# EAGLE library part CAT16-*4 (library HyTechDevices)
Bourns CAT16 series 4x 1% or 5% resistor array size 1206 Datasheet <https://www.bourns.com/docs/Product-Datasheets/CATCAY.pdf> Options: CAT16-F4: 1% tolerance CAT16-J4: 5% tolerance Alternatives: CTS Resistor Products 742C083 series - Datasheet <https://www.ctscorp.com/wp-content/uploads/74x.pdf> Panasonic EXBV8 series - Datasheet <https://industrial.panasonic.com/cdbs/www-data/pdf/AOC0000/AOC0000C14.pdf> Yageo TC164 series - Datasheet <https://www.yageo.com/upload/media/product/productsearch/datasheet/rchip/PYu-YC_TC_group_51_RoHS_L_9.pdf>
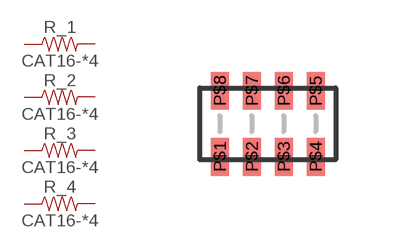
[diagram p118: symbol with the pads of CAT16-*4; footprint CAT16-*4]

Designator prefix R; gates _1=RESISTOR-1 _2=RESISTOR-1 _3=RESISTOR-1 _4=RESISTOR-1

## CAT16-J4_5%  [CAT16-*4]
P$1  _1:1  pas
P$2  _2:1  pas
P$3  _3:1  pas
P$4  _4:1  pas
P$5  _4:2  pas
P$6  _3:2  pas
P$7  _2:2  pas
P$8  _1:2  pas

## CAT16-F4_1%  [CAT16-*4]
Pads as for CAT16-*4

## Footprint CAT16-*4 (pad centres in mm)
smd 0.45 x 0.95: P$1 -1.2,-0.825; P$2 -0.4,-0.825; P$3 0.4,-0.825; P$4 1.2,-0.825; P$5 1.2,0.825; P$6 0.4,0.825; P$7 -0.4,0.825; P$8 -1.2,0.825